# Altium schematic symbol library SW+KEY.SchLib: 5 symbols
Pins are listed as number, name and electrical type; pins without a type are passive.

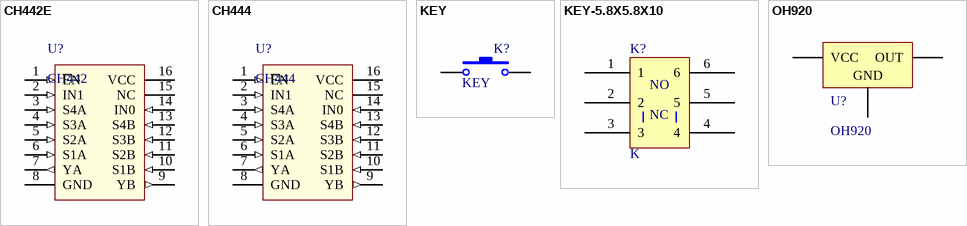
[diagram p0: symbols CH442E to OH920]

## CH442E
designator U?, comment CH442
2 路 2选1模拟开关
footprint SOP-16_150mil_W
pins: 1 ~{E}N (in), 2 IN1 (in), 3 S4A (in), 4 S3A (in), 5 S2A (in), 6 S1A (in), 7 YA (out), 8 GND (power), 9 YB (out), 10 S1B (in), 11 S2B (in), 12 S3B (in), 13 S4B (in), 14 IN0 (in), 15 NC, 16 VCC (power)

## CH444
designator U?
2 通道四选1模拟开关; ComponentLink1Description: 贸易商; ComponentLink1URL: https://item.szlcsc.com/87590.html; ComponentLink2Description: 南京沁恒; ComponentLink2URL: http://wch.cn/products/CH440_2_3_4.html
footprint SOP-16_150mil_W
pins: 1 ~{E}N (in), 2 IN1 (in), 3 S4A (in), 4 S3A (in), 5 S2A (in), 6 S1A (in), 7 YA (out), 8 GND (power), 9 YB (out), 10 S1B (in), 11 S2B (in), 12 S3B (in), 13 S4B (in), 14 IN0 (in), 15 NC, 16 VCC (power)

## KEY
designator K?
Published: 24-Mar-1999; LatestRevisionDate: 17-Jul-2002
footprint KEY
pins: 1, 2
2 alternate drawings of the same symbol

## KEY-5.8X5.8X10
designator K?, comment K
5.8mm*5.8mm*10mm
footprint KEY-5.8X5.8 (按键开关带自锁)
pins: 1, 2, 3, 4, 5, 6
text: NO; NC

## OH920
designator U?
霍尔开关; ComponentLink1Description: 供应商链接; ComponentLink1URL: http://www.szlcsc.com/product/details_5896.html; Package: SOT-23; Supplier: LC; SuppliersPartNumber: C5446
footprint SOT-23-3L (http://www.aosmd.com/res/packaging_information/SOT-23-3L.pdf)
pins: 1 VCC, 2 OUT, 3 GND